# Altium schematic symbol library Coil GOST.SchLib: 5 symbols
Pins are listed as number, name and electrical type; pins without a type are passive.

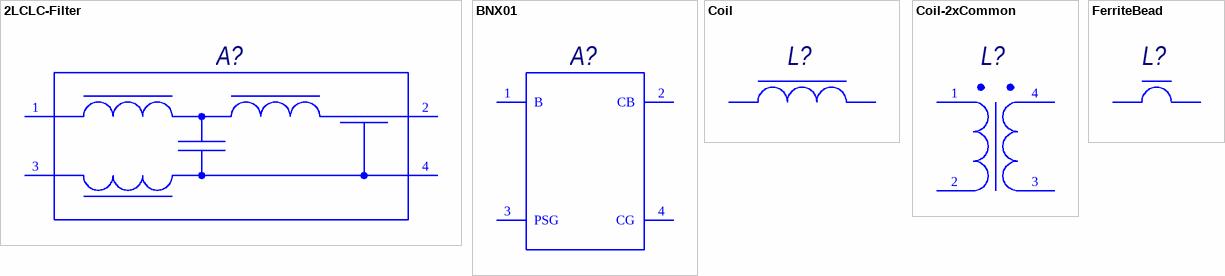
[diagram p0: symbols 2LCLC-Filter to FerriteBead]

## 2LCLC-Filter
designator A?
Published: 07.09.2015; Publisher: Andrew Danich; Type: Фильтр питания
pins: 1, 2, 3, 4

## BNX01
designator A?
Published: 09.04.2017; Type: Фильтр питания
pins: 1 B, 2 CB "Circuit+B", 3 PSG "Power Supply Ground", 4 CG "Circuit Ground"

## Coil
designator L?
Type: Дроссель; Published: 20.05.2010; Publisher: Andrew Danich
pins: 1, 2

## Coil-2xCommon
designator L?
Type: Дроссель; Published: 04.09.2015; Publisher: Andrew Danich
pins: 1, 2, 3, 4

## FerriteBead
designator L?
Type: Дроссель; Published: 14.11.2014; Publisher: Andrew Danich
pins: 1, 2